# EAGLE library part XS05-4S (library connectors)
Shielded connector, 5 pins, 4 shield pins
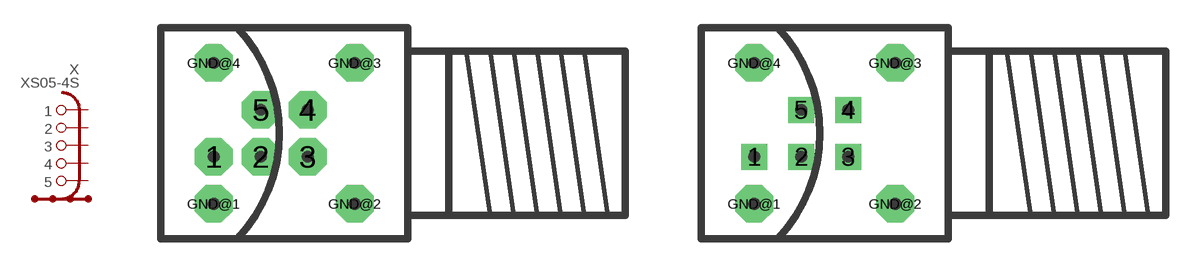
[diagram p59: symbol with the pads of XS05-LEMON; footprints XS05-LEMON, XS05-LEMOR]

Designator prefix X

## XS05-4S-LEMON  [XS05-LEMON]
1  1
2  2
3  3
4  4
5  5
GND@1  GND
GND@2  GND
GND@3  GND
GND@4  GND

## XS05-4S-LEMOR  [XS05-LEMOR]
Pads as for XS05-LEMON

## Footprint XS05-LEMON (pad centres in mm)
LEMO connector 0B, 5 pins Connector center 6.9mm above PCB surface - LEMO: EXG.0B.305.HLN
drill 0.813 pad 2.032 octagon: 1 -3.81,-1.27; 2 -1.27,-1.27; 3 1.27,-1.27; 4 1.27,1.27; 5 -1.27,1.27; GND@1 -3.81,-3.81; GND@2 3.81,-3.81; GND@3 3.81,3.81; GND@4 -3.81,3.81

## Footprint XS05-LEMOR (pad centres in mm)
LEMO connector 0B, 5 pins, reduced pads Connector center 6.9mm above PCB surface - LEMO: EXG.0B.305.HLN
drill 0.813 pad 1.397 square: 1 -3.81,-1.27; 2 -1.27,-1.27; 3 1.27,-1.27; 4 1.27,1.27; 5 -1.27,1.27
drill 0.813 pad 2.032 octagon: GND@1 -3.81,-3.81; GND@2 3.81,-3.81; GND@3 3.81,3.81; GND@4 -3.81,3.81